# Altium schematic symbol library PS2801C-4.SchLib: 2 symbols
Pins are listed as number, name and electrical type; pins without a type are passive.

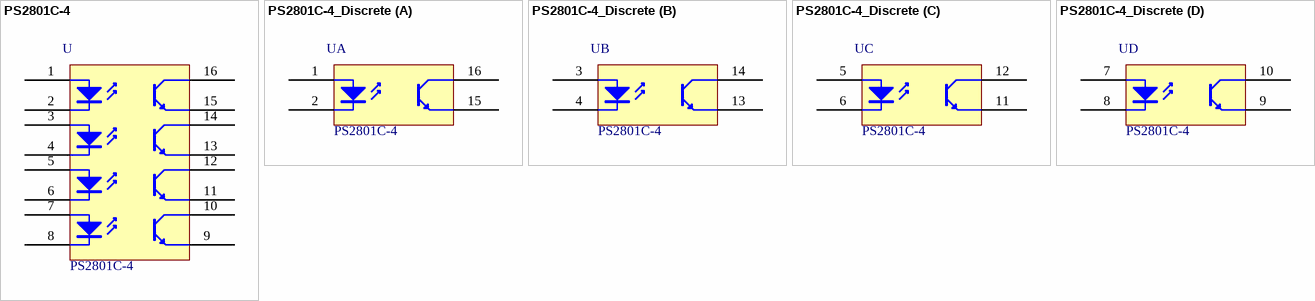
[diagram p0: symbols PS2801C-4 to PS2801C-4_Discrete]

## PS2801C-4
designator U  value PS2801C-4  (hidden comment: *)
footprint SO16
pins: 1, 2, 3, 4, 5, 6, 7, 8, 9, 10, 11, 12, 13, 14, 15, 16

## PS2801C-4_Discrete
designator U  value PS2801C-4  (hidden comment: *)
Manufacturer Code: PS2801C-4-F3-A; Manufacturer: NEC; Input Current: 5mA; Farnell Code: 1682862; Unit Price: 1,37 €
footprint SO16
part A pins: 1, 2, 15, 16
part B pins: 3, 4, 13, 14
part C pins: 5, 6, 11, 12
part D pins: 7, 8, 9, 10